# Altium footprint library Const_Cur_Source.PCBLIB: 58 footprints (part 2 of 4)
Each footprint in its own frame and in the unit in brackets; x right, y up, seen from the top. Pads: shape width x height; smd on the part's side, far side on the other; paste and mask are expansions set on the pad; w line width, h text height; cw(c..) or ccw(c..) is an arc to the next point about the centre after c.
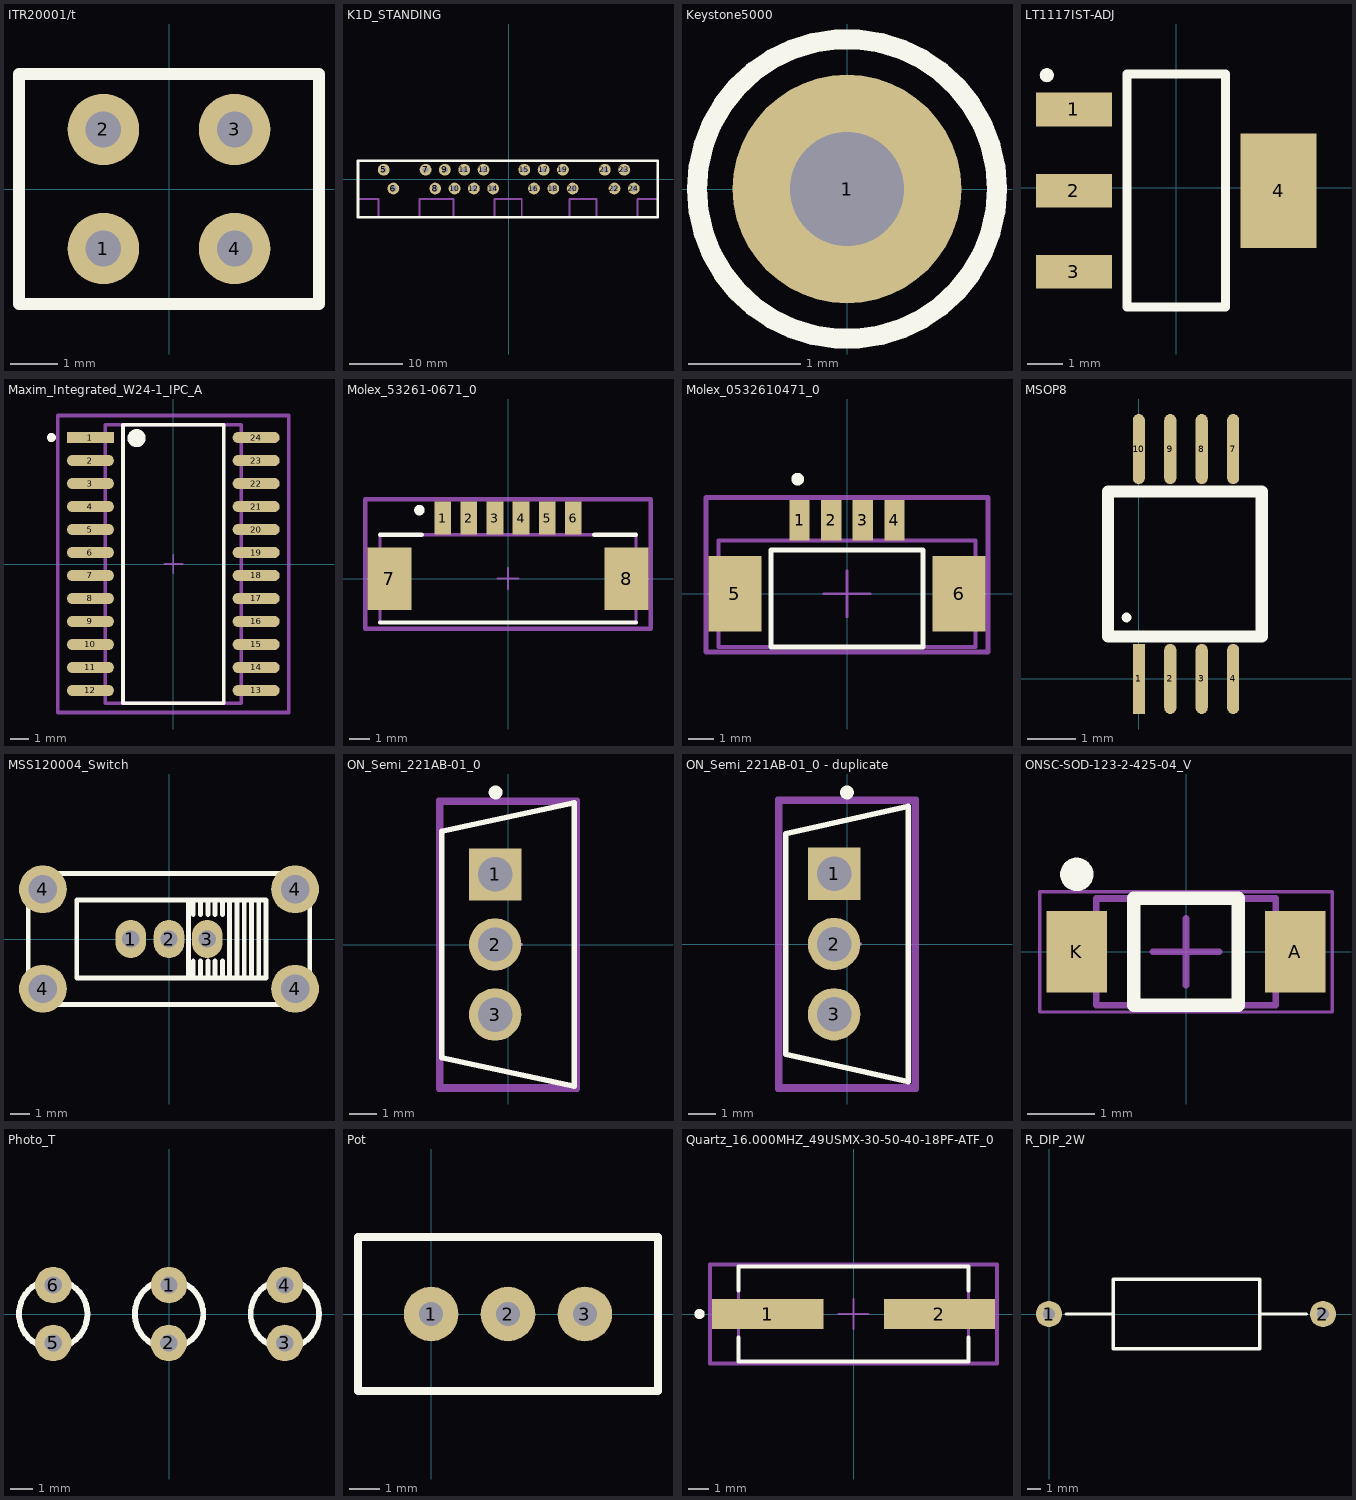
[diagram p1: the footprints below, top view; thin cyan lines are the x and y axes]

## ITR20001/t [mil]
pads (4):
  round 60 hole 30: 1(-55.12,-50) 2(-55.12,50) 3(55.12,50) 4(55.12,-50)
Top Overlay:
  lines w10: -125.98,-96.46 125.98,-96.46 125.98,96.46 -125.98,96.46 -125.98,-96.46

## K1D_STANDING [mm]
pads (20):
  round 2.2 hole 1.1: 5(-23.3,1.75) 6(-21.5,-1.75) 7(-15.5,1.75) 8(-13.7,-1.75) 9(-11.9,1.75) 10(-10.1,-1.75) 11(-8.3,1.75) 12(-6.5,-1.75) 13(-4.7,1.75) 14(-2.9,-1.75) 15(2.9,1.75) 16(4.7,-1.75) 17(6.5,1.75) 18(8.3,-1.75) 19(10.1,1.75) 20(11.9,-1.75) 21(17.9,1.75) 22(19.7,-1.75) 23(21.5,1.75) 24(23.3,-1.75)
Top Overlay:
  lines w0.508: -28.092,-7.112 -28.092,3.429 27.788,3.429 27.788,-7.112 -28.092,-7.112
tOrigins:
  lines w0.35: -28.067,-3.683 -28.067,3.429 27.686,3.429 27.813,3.302 27.813,-3.683 24.003,-3.683 24.003,-7.112 16.383,-7.112 16.383,-3.683 11.303,-3.683 11.303,-7.112 2.413,-7.112 2.413,-3.683 -2.667,-3.683 -2.667,-7.112 -10.287,-7.112 -10.287,-3.683 -16.637,-3.683 -16.637,-7.112 -24.257,-7.112 -24.257,-3.683 -28.067,-3.683
3D body "Z8B00215587_IPT_000_12_merged_20220329.stp": height 68.3, standoff 0.5, extent -27.814,-7.239 27.686,3.161

## Keystone5000 [mil]
pads (1):
  round 80 hole 40: 1(0,0)
Top Overlay:
  circle w7: c0,0 r52.5
tValues:
  circle w3.94: c0,0 r52.5
  text ".Designator" at 55,100 h30
3D body "Keystone_5000.stp": height 181.97, standoff -118.11, extent -49,-49 49.04,49.24

## LT1117IST-ADJ [mm]
pads (4):
  rect 2.15x0.95 smd: 1(-2.9,2.215) 2(-2.9,-0.085) 3(-2.9,-2.385)
  rect 2.15x3.25 smd: 4(2.9,-0.085)
Top Overlay:
  region: -3.471,3.189 -3.474,3.223 -3.483,3.256 -3.497,3.287 -3.517,3.315 -3.541,3.339 -3.569,3.358 -3.6,3.373 -3.633,3.381 -3.667,3.384 -3.701,3.381 -3.734,3.373 -3.765,3.358 -3.793,3.339 -3.817,3.315 -3.837,3.287 -3.851,3.256 -3.86,3.223 -3.863,3.189 -3.86,3.155 -3.851,3.122 -3.837,3.091 -3.817,3.063 -3.793,3.039 -3.765,3.019 -3.734,3.005 -3.701,2.996 -3.667,2.993 -3.633,2.996 -3.6,3.005 -3.569,3.019 -3.541,3.039 -3.517,3.063 -3.497,3.091 -3.483,3.122 -3.474,3.155
  lines w0.254: -1.4,-3.384 1.4,-3.384 1.4,3.215 -1.4,3.215 -1.4,-3.384

## Maxim_Integrated_W24-1_IPC_A [mm]
pads (24):
  rect 2.598x0.607 smd paste+0 mask+0: 1(-4.578,6.985)
  rrect100% 2.598x0.607 smd paste+0 mask+0: 2(-4.578,5.715) 3(-4.578,4.445) 4(-4.578,3.175) 5(-4.578,1.905) 6(-4.578,0.635) 7(-4.578,-0.635) 8(-4.578,-1.905) 9(-4.578,-3.175) 10(-4.578,-4.445) 11(-4.578,-5.715) 12(-4.578,-6.985) 13(4.578,-6.985) 14(4.578,-5.715) 15(4.578,-4.445) 16(4.578,-3.175) 17(4.578,-1.905) 18(4.578,-0.635) 19(4.578,0.635) 20(4.578,1.905) 21(4.578,3.175) 22(4.578,4.445) 23(4.578,5.715) 24(4.578,6.985)
Top Overlay:
  circle w0.25: c-6.727,6.985 r0.125
  circle w0.5: c-2.029,6.95 r0.25
  lines w0.2: -2.779,-7.7 -2.779,7.7 2.779,7.7 2.779,-7.7 -2.779,-7.7
bOrigins:
  lines w0.2: -6.377,-8.2 -6.377,8.2 6.377,8.2 6.377,-8.2 -6.377,-8.2
  text ".Designator" at 0,0 h1
bGlue:
  lines w0.2: -3.75,-7.7 -3.75,7.7 3.75,7.7 3.75,-7.7 -3.75,-7.7
Unrouted:
  lines w0.1: -0.5,0 0.5,0 ; 0,-0.5 0,0.5
  lines w0.2: -6.377,-8.2 -6.377,8.2 6.377,8.2 6.377,-8.2 -6.377,-8.2
3D body "IC_Maxim_Integrated_MAX7219CWG+_eec.STEP": height 0.25, standoff 0, extent -6.377,-8.2 6.377,8.2

## Molex_53261-0671_0 [mm]
pads (8):
  rect 0.8x1.6 smd paste+0 mask+0: 1(-3.125,2.9) 2(-1.875,2.9) 3(-0.625,2.9) 4(0.625,2.9) 5(1.875,2.9) 6(3.125,2.9)
  rect 2.1x3 smd paste+0 mask+0: 7(-5.675,0) 8(5.675,0)
Top Overlay:
  circle w0.25: c-4.237,3.275 r0.125
  lines w0.2: -6.125,-2.1 6.125,-2.1 ; -6.125,2.1 -4.125,2.1 ; 4.125,2.1 6.125,2.1
bOrigins:
  lines w0.2: -6.825,-2.4 6.825,-2.4 6.825,3.8 -6.825,3.8 -6.825,-2.4
  text ".Designator" at 0,0.7 h1
bGlue:
  lines w0.15: -6.125,-2.1 6.125,-2.1 6.125,2.1 -6.125,2.1 -6.125,-2.1
Unrouted:
  lines w0.1: -0.5,0 0.5,0 ; 0,-0.5 0,0.5
  lines w0.2: -6.825,-2.4 6.825,-2.4 6.825,3.8 -6.825,3.8 -6.825,-2.4
3D body "Conn_Molex_53261-0671_eec.STEP": height 0.25, standoff 0, extent -6.825,-2.4 6.825,3.8

## Molex_0532610471_0 [mm]
pads (6):
  rect 0.8x1.6 smd paste+0 mask+0: 1(-1.875,2.9) 2(-0.625,2.9) 3(0.625,2.9) 4(1.875,2.9)
  rect 2.1x3 smd paste+0 mask+0: 5(-4.425,0) 6(4.425,0)
Top Overlay:
  circle w0.25: c-1.95,4.525 r0.125
  lines w0.2: -3,-2.1 3,-2.1 3,1.725 -3,1.725 -3,-2.1
bOrigins:
  lines w0.2: -5.575,-2.3 5.575,-2.3 5.575,3.8 -5.575,3.8 -5.575,-2.3
  text ".Designator" at 0,0.75 h1
bGlue:
  lines w0.15: -5.075,-2.1 5.075,-2.1 5.075,2.1 -5.075,2.1 -5.075,-2.1
Unrouted:
  lines w0.1: -0.915,0 0.915,0 ; 0,-0.915 0,0.915
  lines w0.2: -5.575,-2.3 5.575,-2.3 5.575,3.8 -5.575,3.8 -5.575,-2.3
3D body "Conn_Molex_0532610471_eec.STEP": height 0.25, standoff 0, extent -5.575,-2.3 5.575,3.8

## MSOP8 [mm]
pads (8):
  rect 0.25x1.45 smd: 1(0,0)
  oval 0.25x1.45 smd: 2(0.65,0) 3(1.3,0) 4(1.95,0) 7(1.95,4.75) 8(1.3,4.75) 9(0.65,4.75) 10(0,4.75)
Top Overlay:
  circle w0.1: c-0.254,1.27 r0.05
  lines w0.25: -0.635,0.875 2.54,0.875 2.54,3.875 -0.635,3.875 -0.635,0.875

## MSS120004_Switch [mm]
pads (7):
  oval 1.6x2 hole 0.9: 1(-2,0) 2(0,0) 3(2,0)
  round 2.5 hole 1.5: 4(-6.6,-2.6) 4(-6.6,2.6) 4(6.6,-2.6) 4(6.6,2.6)
Top Overlay:
  lines w0.254: 1.016,-2.032 1.016,2.032 ; 1.27,-1.905 1.27,-1.143 ; 1.27,1.27 1.27,2.032 ; 1.651,-1.905 1.651,-1.143 ; 1.651,1.27 1.651,2.032 ; 2.032,-1.905 2.032,-1.143 ; 2.032,1.27 2.032,2.032 ; 2.413,-1.905 2.413,-1.143 ; 2.413,1.27 2.413,2.032 ; 2.794,-1.905 2.794,-1.143 ; 2.794,1.27 2.794,2.032 ; 3.302,-2.032 -4.826,-2.032 -4.826,2.032 3.175,2.032 ; 3.556,-2.032 3.556,2.032 ; 3.937,-2.032 3.937,2.032 ; 4.318,-2.032 4.318,2.032 ; 4.699,-2.032 4.699,2.032 ; 3.175,2.032 3.175,-2.032 5.08,-2.032 5.08,2.032 3.175,2.032 ; -7.366,-3.429 -7.366,3.429 7.366,3.429 7.366,-3.429 -7.366,-3.429
3D body: height 10, standoff 0, extent -6.6,-2.6 6.6,2.6
3D body: height 15, standoff 10, extent -0.127,-2.032 5.08,2.032

## ON_Semi_221AB-01_0 [mm]
pads (3):
  rect 1.9x1.9 hole 1.25 paste-1000 mask+0: 1(-0.467,2.54)
  round 1.9 hole 1.25 paste-1000 mask+0: 2(-0.467,0) 3(-0.467,-2.54)
Top Overlay:
  circle w0.25: c-0.45,5.515 r0.125
  lines w0.2: 2.41,-5.14 -2.41,-4.112 -2.41,4.112 2.41,5.14 ; 2.41,-5.09 2.41,5.09
bOrigins:
  lines w0.2: -2.51,-5.24 -2.51,5.24 2.51,5.24 2.51,-5.24 -2.51,-5.24
  text ".Designator" at 0,0 h1
bGlue:
  lines w0.15: -2.41,-5.14 -2.41,5.14 2.41,5.14 2.41,-5.14 -2.41,-5.14
Unrouted:
  lines w0.1: -0.5,0 0.5,0 ; 0,-0.5 0,0.5
  lines w0.2: -2.51,-5.24 -2.51,5.24 2.51,5.24 2.51,-5.24 -2.51,-5.24
3D body "IC_ON_Semi_MC7812CTG_eec.STEP": height 0.25, standoff 0, extent -2.51,-5.24 2.51,5.24

## ON_Semi_221AB-01_0 - duplicate [mm]
pads (3):
  rect 1.9x1.9 hole 1.25 paste-1000 mask+0: 1(-0.467,2.54)
  round 1.9 hole 1.25 paste-1000 mask+0: 2(-0.467,0) 3(-0.467,-2.54)
Top Overlay:
  circle w0.25: c0,5.485 r0.125
  lines w0.2: 2.222,-4.985 -2.222,-3.988 -2.222,3.988 2.222,4.985 ; 2.222,-4.935 2.222,4.935
bOrigins:
  lines w0.2: -2.51,-5.24 2.51,-5.24 2.51,5.24 -2.51,5.24 -2.51,-5.24
  text ".Designator" at 0,0 h1
bGlue:
  lines w0.15: -2.41,-5.14 2.41,-5.14 2.41,5.14 -2.41,5.14 -2.41,-5.14
Unrouted:
  lines w0.1: -0.5,0 0.5,0 ; 0,-0.5 0,0.5
  lines w0.2: -2.51,-5.24 2.51,-5.24 2.51,5.24 -2.51,5.24 -2.51,-5.24
3D body "IC_ON_Semi_LM317BTG_eec.STEP": height 0.25, standoff 0, extent -2.51,-5.24 2.51,5.24

## ONSC-SOD-123-2-425-04_V [mm] "SOD, 2-Leads, Body 2.69x1.6mm"
height 1.35
pads (2):
  rect 0.91x1.22 smd: A(1.635,0) K(-1.635,0)
Top Overlay:
  circle w0.25: c-1.635,1.16 r0.125
  lines w0.2: -0.78,-0.8 0.78,-0.8 0.78,0.8 -0.78,0.8 -0.78,-0.8
tTest:
  lines w0.1: -1.345,-0.8 1.345,-0.8 1.345,0.8 -1.345,0.8 -1.345,-0.8
Unrouted:
  lines w0.05: -2.19,-0.9 2.19,-0.9 2.19,0.9 -2.19,0.9 -2.19,-0.9
  lines w0.1: -0.5,0 0.5,0 ; 0,-0.5 0,0.5
3D body: height 1.35, standoff 0, extent -1.345,-0.8 1.345,0.8

## Photo_T [mm]
pads (6):
  round 1.6 hole 0.762: 1(0,1.27) 2(-0.015,-1.27) 3(5.08,-1.27) 4(5.08,1.27) 5(-5.08,-1.27) 6(-5.08,1.27)
Top Overlay:
  circle w0.254: c5.08,0 r1.5
  circle w0.254: c0,0 r1.5
  circle w0.254: c-5.08,0 r1.5

## Pot [mm]
pads (3):
  round 1.8 hole 0.8: 1(0,0) 2(2.54,0) 3(5.08,0)
Top Overlay:
  lines w0.254: -2.413,-2.54 7.493,-2.54 7.493,2.54 -2.413,2.54 -2.413,-2.54

## Quartz_16.000MHZ_49USMX-30-50-40-18PF-ATF_0 [mm]
pads (2):
  rect 5.5x1.5 smd paste+0 mask+0: 1(-4.25,0) 2(4.25,0)
Top Overlay:
  circle w0.25: c-7.625,0 r0.125
  lines w0.2: -5.7,-2.35 5.7,-2.35 ; -5.7,-2.338 -5.7,-1.162 ; -5.7,1.162 -5.7,2.338 ; -5.7,2.35 5.7,2.35 ; 5.7,-2.338 5.7,-1.162 ; 5.7,1.162 5.7,2.338
bOrigins:
  lines w0.2: -7.1,-2.45 7.1,-2.45 7.1,2.45 -7.1,2.45 -7.1,-2.45
  text ".Designator" at 0,0 h1
bGlue:
  lines w0.15: -5.7,-2.35 5.7,-2.35 5.7,2.35 -5.7,2.35 -5.7,-2.35
Unrouted:
  lines w0.1: -0.735,0 0.735,0 ; 0,-0.735 0,0.735
  lines w0.2: -7.1,-2.45 7.1,-2.45 7.1,2.45 -7.1,2.45 -7.1,-2.45
3D body "3dmodel.step": height 0.25, standoff 0, extent -7.1,-2.45 7.1,2.45

## R_DIP_2W [mm]
pads (2):
  round 1.9 hole 0.9: 1(0,0) 2(20,0)
Top Overlay:
  lines w0.254: 1.27,0 4.699,0 ; 15.367,0 18.796,0 ; 4.699,0 4.699,-2.54 15.367,-2.54 15.367,2.54 4.699,2.54 4.699,0